# EAGLE library part LM3404 (library lumy)
1A Constant Current Buck Regulator for driving High Power LEDs
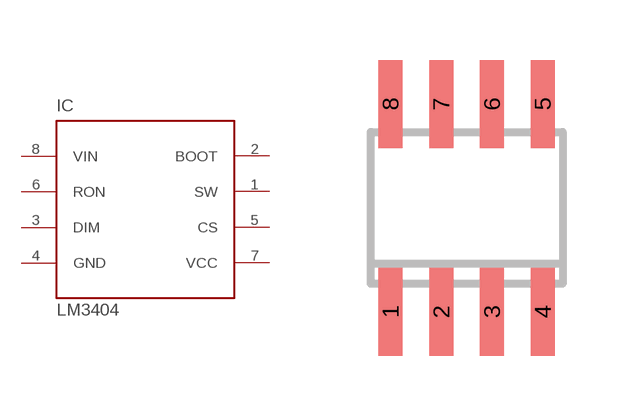
[diagram p0: symbol with the pads of SO08; footprint SO08]

Designator prefix IC

## LM3404  [SO08]
1  SW  out
2  BOOT  out
3  DIM  in
4  GND  pwr
5  CS  in
6  RON  in
7  VCC  pwr
8  VIN  in

## Footprint SO08 (pad centres in mm)
Small Outline Package 8 NS Package M08A
smd 0.6 x 2.2: 1 -1.905,-2.6; 2 -0.635,-2.6; 3 0.635,-2.6; 4 1.905,-2.6; 5 1.905,2.6; 6 0.635,2.6; 7 -0.635,2.6; 8 -1.905,2.6